# EAGLE library part OMEGA2S (library omega2s)
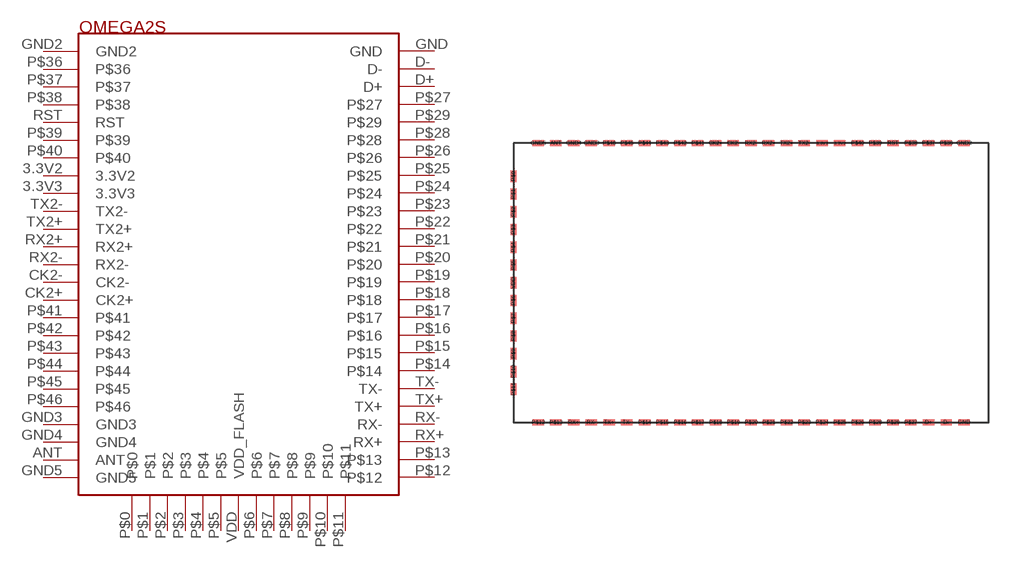
[diagram p0: symbol with the pads of OEMGA2SP; footprint OEMGA2SP]

Designator prefix -

## OMEGA2S  [OEMGA2SP]
3.3V2  3.3V2
3.3V3  3.3V3
ANT  ANT
CK2+  CK2+
CK2-  CK2-
D+  D+
D-  D-
GND  GND
GND2  GND2
GND3  GND3
GND4  GND4
GND5  GND5
P$0  P$0
P$1  P$1
P$2  P$2
P$3  P$3
P$4  P$4
P$5  P$5
P$6  P$6
P$7  P$7
P$8  P$8
P$9  P$9
P$10  P$10
P$11  P$11
P$12  P$12
P$13  P$13
P$14  P$14
P$15  P$15
P$16  P$16
P$17  P$17
P$18  P$18
P$19  P$19
P$20  P$20
P$21  P$21
P$22  P$22
P$23  P$23
P$24  P$24
P$25  P$25
P$26  P$26
P$27  P$27
P$28  P$28
P$29  P$29
P$36  P$36
P$37  P$37
P$38  P$38
P$39  P$39
P$40  P$40
P$41  P$41
P$42  P$42
P$43  P$43
P$44  P$44
P$45  P$45
P$46  P$46
RST  RST
RX2+  RX2+
RX2-  RX2-
RX+  RX+
RX-  RX-
TX2+  TX2+
TX2-  TX2-
TX+  TX+
TX-  TX-
VDD  VDD_FLASH

## Footprint OEMGA2SP (pad centres in mm)
smd 0.813 x 0.406: 3.3V2 23.35,19.999; 3.3V3 22.08,19.999; ANT 3.03,19.999; CK2+ 14.46,19.999; CK2- 15.73,19.999; D+ 29.7,0; D- 30.97,0; GND 32.24,0; GND2 32.24,19.999; GND3 5.57,19.999; GND4 4.3,19.999; GND5 1.76,19.999; P$12 1.76,0; P$13 3.03,0; P$14 9.38,0; P$15 10.65,0; P$16 11.92,0; P$17 13.19,0; P$18 14.46,0; P$19 15.73,0; P$20 17,0; P$21 18.27,0; P$22 19.54,0; P$23 20.81,0; P$24 22.08,0; P$25 23.35,0; P$26 24.62,0; P$27 28.43,0; P$28 25.89,0; P$29 27.16,0; P$36 30.97,19.999; P$37 29.7,19.999; P$38 28.43,19.999; P$39 25.89,19.999; P$40 24.62,19.999; P$41 13.19,19.999; P$42 11.92,19.999; P$43 10.65,19.999; P$44 9.38,19.999; P$45 8.11,19.999; P$46 6.84,19.999; RST 27.16,19.999; RX2+ 18.27,19.999; RX2- 17,19.999; RX+ 4.3,0; RX- 5.57,0; TX2+ 19.54,19.999; TX2- 20.81,19.999; TX+ 6.84,0; TX- 8.11,0
smd 0.406 x 0.813: P$0 0,17.62; P$1 0,16.35; P$2 0,15.08; P$3 0,13.81; P$4 0,12.54; P$5 0,11.27; P$6 0,8.73; P$7 0,7.46; P$8 0,6.19; P$9 0,4.92; P$10 0,3.65; P$11 0,2.38; VDD 0,10